# Altium footprint library PNM0402E2502BST1.PcbLib: 3 footprints
Each footprint in its own frame and in the unit in brackets; x right, y up, seen from the top. Pads: shape width x height; smd on the part's side, far side on the other; paste and mask are expansions set on the pad; w line width, h text height; cw(c..) or ccw(c..) is an arc to the next point about the centre after c.
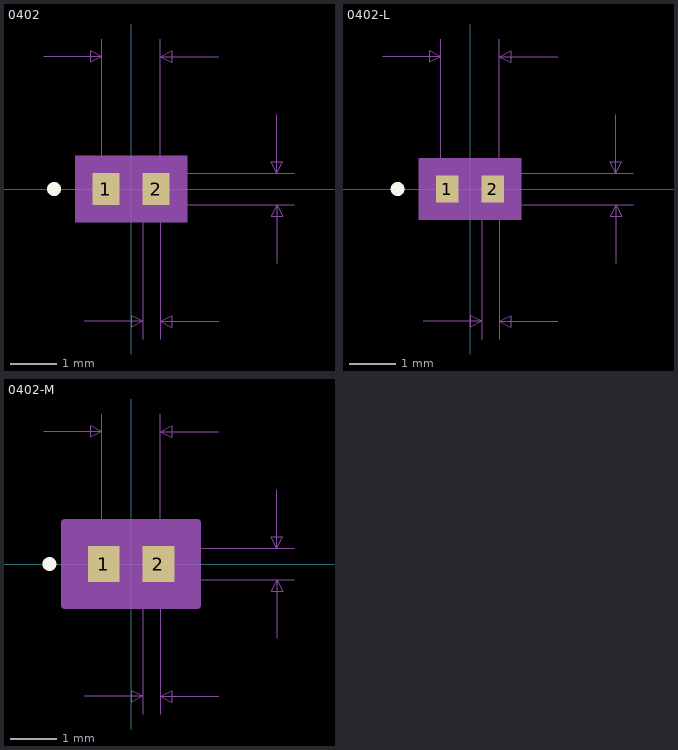
[diagram p0: the footprints below, top view; thin cyan lines are the x and y axes]

## 0402 [mil]
pads (2):
  rect 23x27 smd: 1(-21.5,0) 2(21.5,0)
Top Overlay:
  circle w6: c-66,0 r3
Mechanical 5:
  region: 48,-28.5 -48,-28.5 -48,28.5 48,28.5
Mechanical 7:
  lines w1: -75,113.5 -25,113.5 ; -40,-113.5 10,-113.5 ; -25,0 -25,128.5 ; 0,-13.5 140,-13.5 ; 0,13.5 140,13.5 ; 10,-128.5 10,0 ; 25,-128.5 25,0 25,128.5 ; 75,-113.5 25,-113.5 ; 75,113.5 25,113.5 ; 125,-63.5 125,-13.5 ; 125,63.5 125,13.5 ; -25,113.5 -35,118.5 -35,108.5 -25,113.5 ; 10,-113.5 0,-108.5 0,-118.5 10,-113.5 ; 25,-113.5 35,-108.5 35,-118.5 25,-113.5 ; 25,113.5 35,118.5 35,108.5 25,113.5 ; 125,-13.5 120,-23.5 130,-23.5 125,-13.5 ; 125,13.5 120,23.5 130,23.5 125,13.5
  text "Default Padstyle: RX23Y27D0T" at -350,-283.5 h50
  text "Alt 1 Padstyle: OX60Y90D30P" at -337.5,-343.5 h50
  text "Alt 2 Padstyle: OX90Y60D30P" at -337.5,-403.5 h50
  text "0.027in/0.686mm" at 145,-12.5 h25
  text "0.05in/1.27mm" at -81.25,133.5 h25
  text "0.015in/0.381mm" at -76.25,-158.5 h25
Mechanical 13:
  circle w0: c-16.5,0 r3
  lines w1: -25,-13.5 -25,13.5 ; -25,-13.5 -10,-13.5 -10,13.5 -25,13.5 ; -25,-13.5 25,-13.5 ; -25,-13.5 -25,13.5 ; -25,13.5 25,13.5 ; 25,-13.5 10,-13.5 10,13.5 25,13.5 ; 25,-13.5 25,13.5 ; 25,-13.5 25,13.5
Mechanical 15:
  region: 43,-23.5 -43,-23.5 -43,23.5 43,23.5
  lines w6: -43,-23.5 -43,23.5 43,23.5 43,-23.5 -43,-23.5
3D body: height 10, standoff 0, extent 0,0 10,10

## 0402-L [mil]
pads (2):
  rect 19x23 smd paste+0 mask+0: 1(-19.5,0) 2(19.5,0)
Top Overlay:
  circle w6: c-62,0 r3
Mechanical 5:
  region: 44,-26.5 -44,-26.5 -44,26.5 44,26.5
Mechanical 7:
  lines w1: -75,113.5 -25,113.5 ; -40,-113.5 10,-113.5 ; -25,0 -25,128.5 ; 0,-13.5 140,-13.5 ; 0,13.5 140,13.5 ; 10,-128.5 10,0 ; 25,-128.5 25,0 25,128.5 ; 75,-113.5 25,-113.5 ; 75,113.5 25,113.5 ; 125,-63.5 125,-13.5 ; 125,63.5 125,13.5 ; -25,113.5 -35,118.5 -35,108.5 -25,113.5 ; 10,-113.5 0,-108.5 0,-118.5 10,-113.5 ; 25,-113.5 35,-108.5 35,-118.5 25,-113.5 ; 25,113.5 35,118.5 35,108.5 25,113.5 ; 125,-13.5 120,-23.5 130,-23.5 125,-13.5 ; 125,13.5 120,23.5 130,23.5 125,13.5
  text "Default Padstyle: RX19Y23D0T" at -350,-281.5 h50
  text "Alt 1 Padstyle: OX60Y90D30P" at -337.5,-341.5 h50
  text "Alt 2 Padstyle: OX90Y60D30P" at -337.5,-401.5 h50
  text "0.027in/0.686mm" at 145,-12.5 h25
  text "0.05in/1.27mm" at -81.25,133.5 h25
  text "0.015in/0.381mm" at -76.25,-158.5 h25
Mechanical 13:
  circle w0: c-14.5,0 r3
  lines w1: -25,-13.5 -25,13.5 ; -25,-13.5 -10,-13.5 -10,13.5 -25,13.5 ; -25,-13.5 25,-13.5 ; -25,-13.5 -25,13.5 ; -25,13.5 25,13.5 ; 25,-13.5 10,-13.5 10,13.5 25,13.5 ; 25,-13.5 25,13.5 ; 25,-13.5 25,13.5
Mechanical 15:
  region: 33,-15.5 -33,-15.5 -33,15.5 33,15.5
  lines w6: -33,-15.5 -33,15.5 33,15.5 33,-15.5 -33,-15.5
3D body: height 10, standoff 0, extent 0,0 10,10

## 0402-M [mil]
pads (2):
  rect 27x31 smd paste+0 mask+0: 1(-23.5,0) 2(23.5,0)
Top Overlay:
  circle w6: c-70,0 r3
Mechanical 5:
  region: 52,-30.5 -52,-30.5 -52,30.5 52,30.5
Mechanical 7:
  lines w1: -75,113.5 -25,113.5 ; -40,-113.5 10,-113.5 ; -25,0 -25,128.5 ; 0,-13.5 140,-13.5 ; 0,13.5 140,13.5 ; 10,-128.5 10,0 ; 25,-128.5 25,0 25,128.5 ; 75,-113.5 25,-113.5 ; 75,113.5 25,113.5 ; 125,-63.5 125,-13.5 ; 125,63.5 125,13.5 ; -25,113.5 -35,118.5 -35,108.5 -25,113.5 ; 10,-113.5 0,-108.5 0,-118.5 10,-113.5 ; 25,-113.5 35,-108.5 35,-118.5 25,-113.5 ; 25,113.5 35,118.5 35,108.5 25,113.5 ; 125,-13.5 120,-23.5 130,-23.5 125,-13.5 ; 125,13.5 120,23.5 130,23.5 125,13.5
  text "Default Padstyle: RX27Y31D0T" at -350,-285.5 h50
  text "Alt 1 Padstyle: OX60Y90D30P" at -337.5,-345.5 h50
  text "Alt 2 Padstyle: OX90Y60D30P" at -337.5,-405.5 h50
  text "0.027in/0.686mm" at 145,-12.5 h25
  text "0.05in/1.27mm" at -81.25,133.5 h25
  text "0.015in/0.381mm" at -76.25,-158.5 h25
Mechanical 13:
  circle w0: c-18.5,0 r3
  lines w1: -25,-13.5 -25,13.5 ; -25,-13.5 -10,-13.5 -10,13.5 -25,13.5 ; -25,-13.5 25,-13.5 ; -25,-13.5 -25,13.5 ; -25,13.5 25,13.5 ; 25,-13.5 10,-13.5 10,13.5 25,13.5 ; 25,-13.5 25,13.5 ; 25,-13.5 25,13.5
Mechanical 15:
  region: 57,-35.5 -57,-35.5 -57,35.5 57,35.5
  lines w6: -57,-35.5 -57,35.5 57,35.5 57,-35.5 -57,-35.5
3D body: height 10, standoff 0, extent 0,0 10,10